# Altium integrated library National Semiconductor MiscPower.IntLib: 1552 symbols (part 14 of 43)
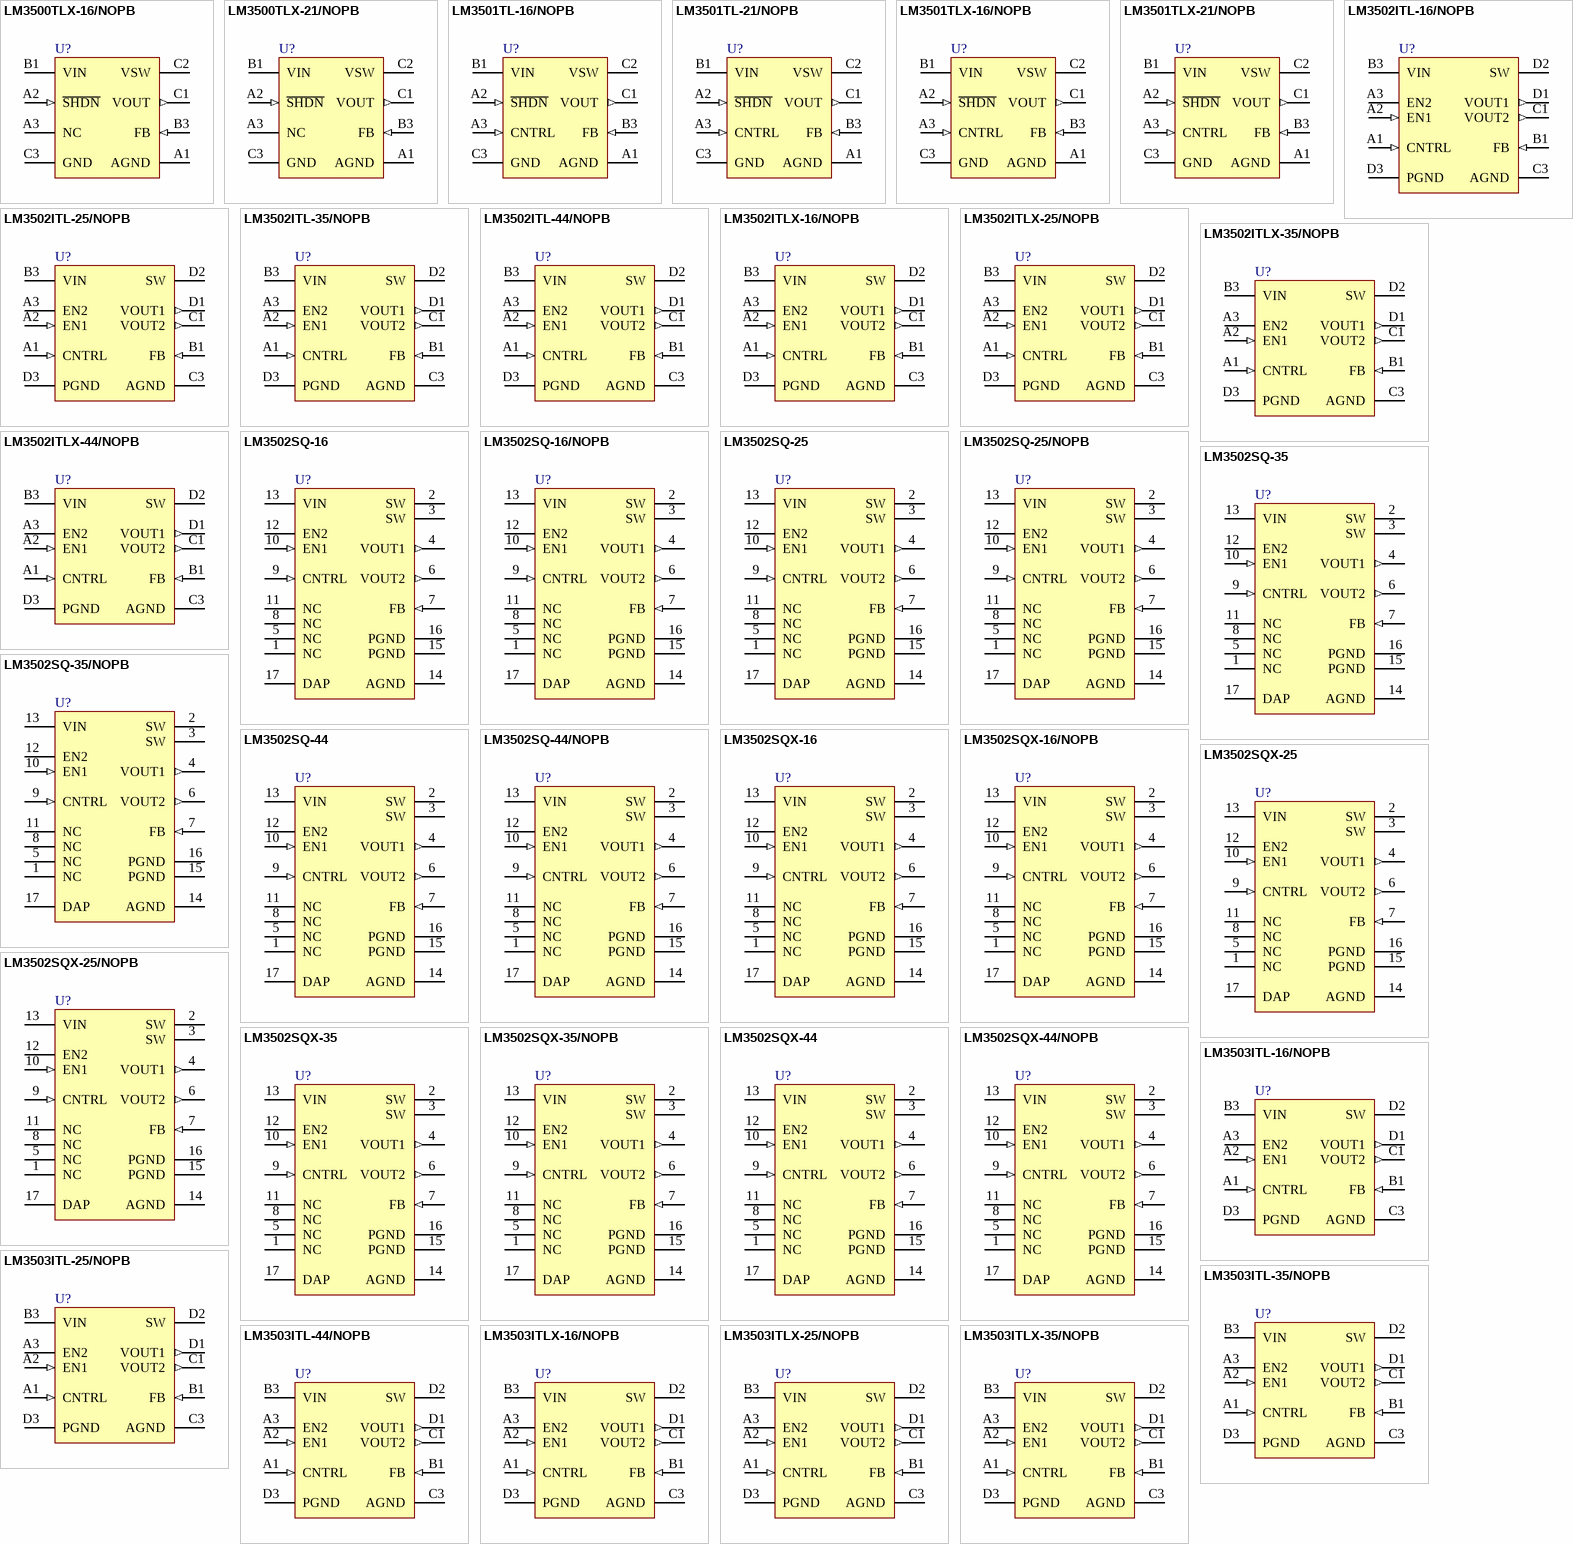
[diagram p70: symbols LM3500TLX-16/NOPB to LM3503ITLX-35/NOPB]

## LM3500TLX-21/NOPB
designator U?
Synchronous Step-up DC/DC Converter for White LED Applications, 8-pin Micro SMD, Pb-Free; PartNumber: LM3500TLX-21/NOPB; Manufacturer: National Semiconductor; PackageTopMarking: XVS*I 23; PowerWise: N; CompType: MiscPower; High-Reliability: Y; DatasheetVersion: Feb-2005; PackageVersion: revC, Jan-2004; PackageReference: TLA08SSA; PackageDescription: Thin Micro SMD, 8 Bump (Large), 0.5mm Pitch; RoHS: Y; PinCount: 8; Code_JEDEC: MO-211-DD; ComponentLink1Description: Manufacturer URL; ComponentLink1URL: http://www.national.com/; ComponentLink2Description: LM3500 Datasheet; ComponentLink2URL: http://www.national.com/ds/LM/LM3500.pdf; ComponentLink3Description: LM3500 Web Page; ComponentLink3URL: http://www.national.com/pf/LM/LM3500.html; ComponentLink4Description: TLA08SSA Package Page; ComponentLink4URL: http://www.national.com/packaging/folders/tla08ssa.html
footprint TLA08SSA (Micro SMD, 8-Leads, Body 1.92x1.92mm, Pitch 0.5mm, NSC Recommended)
pins: A1 AGND (power), A2 ~{SHDN} (in), A3 NC, B1 VIN (power), B3 FB (in), C1 VOUT (out), C2 VSW, C3 GND (power)

## LM3501TL-16/NOPB
designator U?
Synchronous Step-up DC/DC Converter for White LED Applications, 8-pin Micro SMD, Pb-Free; PartNumber: LM3501TL-16/NOPB; Manufacturer: National Semiconductor; PackageTopMarking: XVS*I 19; PowerWise: N; CompType: MiscPower; High-Reliability: Y; DatasheetVersion: May-2005; PackageVersion: revC, Jan-2004; PackageReference: TLA08SSA; PackageDescription: Thin Micro SMD, 8 Bump (Large), 0.5mm Pitch; RoHS: Y; PinCount: 8; Code_JEDEC: MO-211-DD; ComponentLink1Description: Manufacturer URL; ComponentLink1URL: http://www.national.com/; ComponentLink2Description: LM3501 Datasheet; ComponentLink2URL: http://www.national.com/ds/LM/LM3501.pdf; ComponentLink3Description: LM3501 Web Page; ComponentLink3URL: http://www.national.com/pf/LM/LM3501.html; ComponentLink4Description: TLA08SSA Package Page; ComponentLink4URL: http://www.national.com/packaging/folders/tla08ssa.html
footprint TLA08SSA (Micro SMD, 8-Leads, Body 1.92x1.92mm, Pitch 0.5mm, NSC Recommended)
pins: A1 AGND (power), A2 ~{SHDN} (in), A3 CNTRL (in), B1 VIN (power), B3 FB (in), C1 VOUT (out), C2 VSW, C3 GND (power)

## LM3501TL-21/NOPB
designator U?
Synchronous Step-up DC/DC Converter for White LED Applications, 8-pin Micro SMD, Pb-Free; PartNumber: LM3501TL-21/NOPB; Manufacturer: National Semiconductor; PackageTopMarking: XVS*I 30; PowerWise: N; CompType: MiscPower; High-Reliability: Y; DatasheetVersion: May-2005; PackageVersion: revC, Jan-2004; PackageReference: TLA08SSA; PackageDescription: Thin Micro SMD, 8 Bump (Large), 0.5mm Pitch; RoHS: Y; PinCount: 8; Code_JEDEC: MO-211-DD; ComponentLink1Description: Manufacturer URL; ComponentLink1URL: http://www.national.com/; ComponentLink2Description: LM3501 Datasheet; ComponentLink2URL: http://www.national.com/ds/LM/LM3501.pdf; ComponentLink3Description: LM3501 Web Page; ComponentLink3URL: http://www.national.com/pf/LM/LM3501.html; ComponentLink4Description: TLA08SSA Package Page; ComponentLink4URL: http://www.national.com/packaging/folders/tla08ssa.html
footprint TLA08SSA (Micro SMD, 8-Leads, Body 1.92x1.92mm, Pitch 0.5mm, NSC Recommended)
pins: A1 AGND (power), A2 ~{SHDN} (in), A3 CNTRL (in), B1 VIN (power), B3 FB (in), C1 VOUT (out), C2 VSW, C3 GND (power)

## LM3501TLX-16/NOPB
designator U?
Synchronous Step-up DC/DC Converter for White LED Applications, 8-pin Micro SMD, Pb-Free; PartNumber: LM3501TLX-16/NOPB; Manufacturer: National Semiconductor; PackageTopMarking: XVS*I 19; PowerWise: N; CompType: MiscPower; High-Reliability: Y; DatasheetVersion: May-2005; PackageVersion: revC, Jan-2004; PackageReference: TLA08SSA; PackageDescription: Thin Micro SMD, 8 Bump (Large), 0.5mm Pitch; RoHS: Y; PinCount: 8; Code_JEDEC: MO-211-DD; ComponentLink1Description: Manufacturer URL; ComponentLink1URL: http://www.national.com/; ComponentLink2Description: LM3501 Datasheet; ComponentLink2URL: http://www.national.com/ds/LM/LM3501.pdf; ComponentLink3Description: LM3501 Web Page; ComponentLink3URL: http://www.national.com/pf/LM/LM3501.html; ComponentLink4Description: TLA08SSA Package Page; ComponentLink4URL: http://www.national.com/packaging/folders/tla08ssa.html
footprint TLA08SSA (Micro SMD, 8-Leads, Body 1.92x1.92mm, Pitch 0.5mm, NSC Recommended)
pins: A1 AGND (power), A2 ~{SHDN} (in), A3 CNTRL (in), B1 VIN (power), B3 FB (in), C1 VOUT (out), C2 VSW, C3 GND (power)

## LM3501TLX-21/NOPB
designator U?
Synchronous Step-up DC/DC Converter for White LED Applications, 8-pin Micro SMD, Pb-Free; PartNumber: LM3501TLX-21/NOPB; Manufacturer: National Semiconductor; PackageTopMarking: XVS*I 30; PowerWise: N; CompType: MiscPower; High-Reliability: Y; DatasheetVersion: May-2005; PackageVersion: revC, Jan-2004; PackageReference: TLA08SSA; PackageDescription: Thin Micro SMD, 8 Bump (Large), 0.5mm Pitch; RoHS: Y; PinCount: 8; Code_JEDEC: MO-211-DD; ComponentLink1Description: Manufacturer URL; ComponentLink1URL: http://www.national.com/; ComponentLink2Description: LM3501 Datasheet; ComponentLink2URL: http://www.national.com/ds/LM/LM3501.pdf; ComponentLink3Description: LM3501 Web Page; ComponentLink3URL: http://www.national.com/pf/LM/LM3501.html; ComponentLink4Description: TLA08SSA Package Page; ComponentLink4URL: http://www.national.com/packaging/folders/tla08ssa.html
footprint TLA08SSA (Micro SMD, 8-Leads, Body 1.92x1.92mm, Pitch 0.5mm, NSC Recommended)
pins: A1 AGND (power), A2 ~{SHDN} (in), A3 CNTRL (in), B1 VIN (power), B3 FB (in), C1 VOUT (out), C2 VSW, C3 GND (power)

## LM3502ITL-16/NOPB
designator U?
Step-Up Converter for White LED Applications, 10-pin Micro SMD, Pb-Free; PartNumber: LM3502ITL-16/NOPB; Manufacturer: National Semiconductor; PackageTopMarking: XYTT*I SANB; PowerWise: Y; CompType: MiscPower; DatasheetVersion: Aug-2006; PackageVersion: revD, Mar-2004; PackageReference: TLP10RDA; PackageDescription: Thin Micro SMD, 10 Bump (Large), Periperal, 0.5mm Pitch; RoHS: Y; PinCount: 10; High-Reliability: Y; Code_JEDEC: MO-211-BD; ComponentLink1Description: Manufacturer URL; ComponentLink1URL: http://www.national.com/; ComponentLink2Description: LM3502 Datasheet; ComponentLink2URL: http://www.national.com/ds/LM/LM3502.pdf; ComponentLink3Description: LM3502 Web Page; ComponentLink3URL: http://www.national.com/pf/LM/LM3502.html; ComponentLink4Description: TLP10RDA Package Page; ComponentLink4URL: http://www.national.com/packaging/folders/tlp10rda.html
footprint TLP10RDA (Micro SMD, 10-Leads, Body 2.07x1.9mm, Pitch 0.5mm, NSC Recommended)
pins: A1 CNTRL (in), A2 EN1 (in), A3 EN2, B1 FB (in), B3 VIN (power), C1 VOUT2 (out), C3 AGND (power), D1 VOUT1 (out), D2 SW (power), D3 PGND (power)

## LM3502ITL-25/NOPB
designator U?
Step-Up Converter for White LED Applications, 10-pin Micro SMD, Pb-Free; PartNumber: LM3502ITL-25/NOPB; Manufacturer: National Semiconductor; PackageTopMarking: XYTT*I SAPB; PowerWise: Y; CompType: MiscPower; DatasheetVersion: Aug-2006; PackageVersion: revD, Mar-2004; PackageReference: TLP10RDA; PackageDescription: Thin Micro SMD, 10 Bump (Large), Periperal, 0.5mm Pitch; RoHS: Y; PinCount: 10; High-Reliability: Y; Code_JEDEC: MO-211-BD; ComponentLink1Description: Manufacturer URL; ComponentLink1URL: http://www.national.com/; ComponentLink2Description: LM3502 Datasheet; ComponentLink2URL: http://www.national.com/ds/LM/LM3502.pdf; ComponentLink3Description: LM3502 Web Page; ComponentLink3URL: http://www.national.com/pf/LM/LM3502.html; ComponentLink4Description: TLP10RDA Package Page; ComponentLink4URL: http://www.national.com/packaging/folders/tlp10rda.html
footprint TLP10RDA (Micro SMD, 10-Leads, Body 2.07x1.9mm, Pitch 0.5mm, NSC Recommended)
pins: A1 CNTRL (in), A2 EN1 (in), A3 EN2, B1 FB (in), B3 VIN (power), C1 VOUT2 (out), C3 AGND (power), D1 VOUT1 (out), D2 SW (power), D3 PGND (power)

## LM3502ITL-35/NOPB
designator U?
Step-Up Converter for White LED Applications, 10-pin Micro SMD, Pb-Free; PartNumber: LM3502ITL-35/NOPB; Manufacturer: National Semiconductor; PackageTopMarking: XYTT*I SARB; PowerWise: Y; CompType: MiscPower; DatasheetVersion: Aug-2006; PackageVersion: revD, Mar-2004; PackageReference: TLP10RDA; PackageDescription: Thin Micro SMD, 10 Bump (Large), Periperal, 0.5mm Pitch; RoHS: Y; PinCount: 10; High-Reliability: Y; Code_JEDEC: MO-211-BD; ComponentLink1Description: Manufacturer URL; ComponentLink1URL: http://www.national.com/; ComponentLink2Description: LM3502 Datasheet; ComponentLink2URL: http://www.national.com/ds/LM/LM3502.pdf; ComponentLink3Description: LM3502 Web Page; ComponentLink3URL: http://www.national.com/pf/LM/LM3502.html; ComponentLink4Description: TLP10RDA Package Page; ComponentLink4URL: http://www.national.com/packaging/folders/tlp10rda.html
footprint TLP10RDA (Micro SMD, 10-Leads, Body 2.07x1.9mm, Pitch 0.5mm, NSC Recommended)
pins: A1 CNTRL (in), A2 EN1 (in), A3 EN2, B1 FB (in), B3 VIN (power), C1 VOUT2 (out), C3 AGND (power), D1 VOUT1 (out), D2 SW (power), D3 PGND (power)

## LM3502ITL-44/NOPB
designator U?
Step-Up Converter for White LED Applications, 10-pin Micro SMD, Pb-Free; PartNumber: LM3502ITL-44/NOPB; Manufacturer: National Semiconductor; PackageTopMarking: XYTT*I SDLB; PowerWise: Y; CompType: MiscPower; DatasheetVersion: Aug-2006; PackageVersion: revD, Mar-2004; PackageReference: TLP10RDA; PackageDescription: Thin Micro SMD, 10 Bump (Large), Periperal, 0.5mm Pitch; RoHS: Y; PinCount: 10; High-Reliability: Y; Code_JEDEC: MO-211-BD; ComponentLink1Description: Manufacturer URL; ComponentLink1URL: http://www.national.com/; ComponentLink2Description: LM3502 Datasheet; ComponentLink2URL: http://www.national.com/ds/LM/LM3502.pdf; ComponentLink3Description: LM3502 Web Page; ComponentLink3URL: http://www.national.com/pf/LM/LM3502.html; ComponentLink4Description: TLP10RDA Package Page; ComponentLink4URL: http://www.national.com/packaging/folders/tlp10rda.html
footprint TLP10RDA (Micro SMD, 10-Leads, Body 2.07x1.9mm, Pitch 0.5mm, NSC Recommended)
pins: A1 CNTRL (in), A2 EN1 (in), A3 EN2, B1 FB (in), B3 VIN (power), C1 VOUT2 (out), C3 AGND (power), D1 VOUT1 (out), D2 SW (power), D3 PGND (power)

## LM3502ITLX-16/NOPB
designator U?
Step-Up Converter for White LED Applications, 10-pin Micro SMD, Pb-Free; PartNumber: LM3502ITLX-16/NOPB; Manufacturer: National Semiconductor; PackageTopMarking: XYTT*I SANB; PowerWise: Y; CompType: MiscPower; DatasheetVersion: Aug-2006; PackageVersion: revD, Mar-2004; PackageReference: TLP10RDA; PackageDescription: Thin Micro SMD, 10 Bump (Large), Periperal, 0.5mm Pitch; RoHS: Y; PinCount: 10; High-Reliability: Y; Code_JEDEC: MO-211-BD; ComponentLink1Description: Manufacturer URL; ComponentLink1URL: http://www.national.com/; ComponentLink2Description: LM3502 Datasheet; ComponentLink2URL: http://www.national.com/ds/LM/LM3502.pdf; ComponentLink3Description: LM3502 Web Page; ComponentLink3URL: http://www.national.com/pf/LM/LM3502.html; ComponentLink4Description: TLP10RDA Package Page; ComponentLink4URL: http://www.national.com/packaging/folders/tlp10rda.html
footprint TLP10RDA (Micro SMD, 10-Leads, Body 2.07x1.9mm, Pitch 0.5mm, NSC Recommended)
pins: A1 CNTRL (in), A2 EN1 (in), A3 EN2, B1 FB (in), B3 VIN (power), C1 VOUT2 (out), C3 AGND (power), D1 VOUT1 (out), D2 SW (power), D3 PGND (power)

## LM3502ITLX-25/NOPB
designator U?
Step-Up Converter for White LED Applications, 10-pin Micro SMD, Pb-Free; PartNumber: LM3502ITLX-25/NOPB; Manufacturer: National Semiconductor; PackageTopMarking: XYTT*I SAPB; PowerWise: Y; CompType: MiscPower; DatasheetVersion: Aug-2006; PackageVersion: revD, Mar-2004; PackageReference: TLP10RDA; PackageDescription: Thin Micro SMD, 10 Bump (Large), Periperal, 0.5mm Pitch; RoHS: Y; PinCount: 10; High-Reliability: Y; Code_JEDEC: MO-211-BD; ComponentLink1Description: Manufacturer URL; ComponentLink1URL: http://www.national.com/; ComponentLink2Description: LM3502 Datasheet; ComponentLink2URL: http://www.national.com/ds/LM/LM3502.pdf; ComponentLink3Description: LM3502 Web Page; ComponentLink3URL: http://www.national.com/pf/LM/LM3502.html; ComponentLink4Description: TLP10RDA Package Page; ComponentLink4URL: http://www.national.com/packaging/folders/tlp10rda.html
footprint TLP10RDA (Micro SMD, 10-Leads, Body 2.07x1.9mm, Pitch 0.5mm, NSC Recommended)
pins: A1 CNTRL (in), A2 EN1 (in), A3 EN2, B1 FB (in), B3 VIN (power), C1 VOUT2 (out), C3 AGND (power), D1 VOUT1 (out), D2 SW (power), D3 PGND (power)

## LM3502ITLX-35/NOPB
designator U?
Step-Up Converter for White LED Applications, 10-pin Micro SMD, Pb-Free; PartNumber: LM3502ITLX-35/NOPB; Manufacturer: National Semiconductor; PackageTopMarking: XYTT*I SARB; PowerWise: Y; CompType: MiscPower; DatasheetVersion: Aug-2006; PackageVersion: revD, Mar-2004; PackageReference: TLP10RDA; PackageDescription: Thin Micro SMD, 10 Bump (Large), Periperal, 0.5mm Pitch; RoHS: Y; PinCount: 10; High-Reliability: Y; Code_JEDEC: MO-211-BD; ComponentLink1Description: Manufacturer URL; ComponentLink1URL: http://www.national.com/; ComponentLink2Description: LM3502 Datasheet; ComponentLink2URL: http://www.national.com/ds/LM/LM3502.pdf; ComponentLink3Description: LM3502 Web Page; ComponentLink3URL: http://www.national.com/pf/LM/LM3502.html; ComponentLink4Description: TLP10RDA Package Page; ComponentLink4URL: http://www.national.com/packaging/folders/tlp10rda.html
footprint TLP10RDA (Micro SMD, 10-Leads, Body 2.07x1.9mm, Pitch 0.5mm, NSC Recommended)
pins: A1 CNTRL (in), A2 EN1 (in), A3 EN2, B1 FB (in), B3 VIN (power), C1 VOUT2 (out), C3 AGND (power), D1 VOUT1 (out), D2 SW (power), D3 PGND (power)

## LM3502ITLX-44/NOPB
designator U?
Step-Up Converter for White LED Applications, 10-pin Micro SMD, Pb-Free; PartNumber: LM3502ITLX-44/NOPB; Manufacturer: National Semiconductor; PackageTopMarking: XYTT*I SDLB; PowerWise: Y; CompType: MiscPower; DatasheetVersion: Aug-2006; PackageVersion: revD, Mar-2004; PackageReference: TLP10RDA; PackageDescription: Thin Micro SMD, 10 Bump (Large), Periperal, 0.5mm Pitch; RoHS: Y; PinCount: 10; High-Reliability: Y; Code_JEDEC: MO-211-BD; ComponentLink1Description: Manufacturer URL; ComponentLink1URL: http://www.national.com/; ComponentLink2Description: LM3502 Datasheet; ComponentLink2URL: http://www.national.com/ds/LM/LM3502.pdf; ComponentLink3Description: LM3502 Web Page; ComponentLink3URL: http://www.national.com/pf/LM/LM3502.html; ComponentLink4Description: TLP10RDA Package Page; ComponentLink4URL: http://www.national.com/packaging/folders/tlp10rda.html
footprint TLP10RDA (Micro SMD, 10-Leads, Body 2.07x1.9mm, Pitch 0.5mm, NSC Recommended)
pins: A1 CNTRL (in), A2 EN1 (in), A3 EN2, B1 FB (in), B3 VIN (power), C1 VOUT2 (out), C3 AGND (power), D1 VOUT1 (out), D2 SW (power), D3 PGND (power)

## LM3502SQ-16
designator U?
Step-Up Converter for White LED Applications, 16-pin LLP; PartNumber: LM3502SQ-16; Manufacturer: National Semiconductor; PackageTopMarking: NS*UZXYTT*L00048B; PowerWise: Y; CompType: MiscPower; DatasheetVersion: Aug-2006; PackageVersion: revA, Oct-2003; PackageReference: SQA16A; PackageDescription: LLP, Plastic, Quad, 4 x 4 x 0.8mm Body, 16 Lead, 0.5mm Pitch, No Pullback; RoHS: N; PinCount: 16; High-Reliability: Y; ComponentLink1Description: Manufacturer URL; ComponentLink1URL: http://www.national.com/; ComponentLink2Description: LM3502 Datasheet; ComponentLink2URL: http://www.national.com/ds/LM/LM3502.pdf; ComponentLink3Description: LM3502 Web Page; ComponentLink3URL: http://www.national.com/pf/LM/LM3502.html; ComponentLink4Description: SQA16A Package Page; ComponentLink4URL: http://www.national.com/packaging/folders/sqa16a.html
footprint SQA16A (QFN, 16-Leads, Body 4x4mm, Pitch 0.5mm, Thermal Pad 2.7x2.7mm, NSC Recommended)
pins: 1 NC, 2 SW (power), 3 SW (power), 4 VOUT1 (out), 5 NC, 6 VOUT2 (out), 7 FB (in), 8 NC, 9 CNTRL (in), 10 EN1 (in), 11 NC, 12 EN2, 13 VIN (power), 14 AGND (power), 15 PGND (power), 16 PGND (power), 17 DAP (power)

## LM3502SQ-16/NOPB
designator U?
Step-Up Converter for White LED Applications, 16-pin LLP, Pb-Free; PartNumber: LM3502SQ-16/NOPB; Manufacturer: National Semiconductor; PackageTopMarking: NS*UZXYTT*L00048B; PowerWise: Y; CompType: MiscPower; DatasheetVersion: Aug-2006; PackageVersion: revA, Oct-2003; PackageReference: SQA16A; PackageDescription: LLP, Plastic, Quad, 4 x 4 x 0.8mm Body, 16 Lead, 0.5mm Pitch, No Pullback; RoHS: Y; PinCount: 16; High-Reliability: Y; ComponentLink1Description: Manufacturer URL; ComponentLink1URL: http://www.national.com/; ComponentLink2Description: LM3502 Datasheet; ComponentLink2URL: http://www.national.com/ds/LM/LM3502.pdf; ComponentLink3Description: LM3502 Web Page; ComponentLink3URL: http://www.national.com/pf/LM/LM3502.html; ComponentLink4Description: SQA16A Package Page; ComponentLink4URL: http://www.national.com/packaging/folders/sqa16a.html
footprint SQA16A (QFN, 16-Leads, Body 4x4mm, Pitch 0.5mm, Thermal Pad 2.7x2.7mm, NSC Recommended)
pins: 1 NC, 2 SW (power), 3 SW (power), 4 VOUT1 (out), 5 NC, 6 VOUT2 (out), 7 FB (in), 8 NC, 9 CNTRL (in), 10 EN1 (in), 11 NC, 12 EN2, 13 VIN (power), 14 AGND (power), 15 PGND (power), 16 PGND (power), 17 DAP (power)

## LM3502SQ-25
designator U?
Step-Up Converter for White LED Applications, 16-pin LLP; PartNumber: LM3502SQ-25; Manufacturer: National Semiconductor; PackageTopMarking: NS*UZXYTT*L00049B; PowerWise: Y; CompType: MiscPower; DatasheetVersion: Aug-2006; PackageVersion: revA, Oct-2003; PackageReference: SQA16A; PackageDescription: LLP, Plastic, Quad, 4 x 4 x 0.8mm Body, 16 Lead, 0.5mm Pitch, No Pullback; RoHS: N; PinCount: 16; High-Reliability: Y; ComponentLink1Description: Manufacturer URL; ComponentLink1URL: http://www.national.com/; ComponentLink2Description: LM3502 Datasheet; ComponentLink2URL: http://www.national.com/ds/LM/LM3502.pdf; ComponentLink3Description: LM3502 Web Page; ComponentLink3URL: http://www.national.com/pf/LM/LM3502.html; ComponentLink4Description: SQA16A Package Page; ComponentLink4URL: http://www.national.com/packaging/folders/sqa16a.html
footprint SQA16A (QFN, 16-Leads, Body 4x4mm, Pitch 0.5mm, Thermal Pad 2.7x2.7mm, NSC Recommended)
pins: 1 NC, 2 SW (power), 3 SW (power), 4 VOUT1 (out), 5 NC, 6 VOUT2 (out), 7 FB (in), 8 NC, 9 CNTRL (in), 10 EN1 (in), 11 NC, 12 EN2, 13 VIN (power), 14 AGND (power), 15 PGND (power), 16 PGND (power), 17 DAP (power)

## LM3502SQ-25/NOPB
designator U?
Step-Up Converter for White LED Applications, 16-pin LLP, Pb-Free; PartNumber: LM3502SQ-25/NOPB; Manufacturer: National Semiconductor; PackageTopMarking: NS*UZXYTT*L00049B; PowerWise: Y; CompType: MiscPower; DatasheetVersion: Aug-2006; PackageVersion: revA, Oct-2003; PackageReference: SQA16A; PackageDescription: LLP, Plastic, Quad, 4 x 4 x 0.8mm Body, 16 Lead, 0.5mm Pitch, No Pullback; RoHS: Y; PinCount: 16; High-Reliability: Y; ComponentLink1Description: Manufacturer URL; ComponentLink1URL: http://www.national.com/; ComponentLink2Description: LM3502 Datasheet; ComponentLink2URL: http://www.national.com/ds/LM/LM3502.pdf; ComponentLink3Description: LM3502 Web Page; ComponentLink3URL: http://www.national.com/pf/LM/LM3502.html; ComponentLink4Description: SQA16A Package Page; ComponentLink4URL: http://www.national.com/packaging/folders/sqa16a.html
footprint SQA16A (QFN, 16-Leads, Body 4x4mm, Pitch 0.5mm, Thermal Pad 2.7x2.7mm, NSC Recommended)
pins: 1 NC, 2 SW (power), 3 SW (power), 4 VOUT1 (out), 5 NC, 6 VOUT2 (out), 7 FB (in), 8 NC, 9 CNTRL (in), 10 EN1 (in), 11 NC, 12 EN2, 13 VIN (power), 14 AGND (power), 15 PGND (power), 16 PGND (power), 17 DAP (power)

## LM3502SQ-35
designator U?
Step-Up Converter for White LED Applications, 16-pin LLP; PartNumber: LM3502SQ-35; Manufacturer: National Semiconductor; PackageTopMarking: NS*UZXYTT*L00044B; PowerWise: Y; CompType: MiscPower; DatasheetVersion: Aug-2006; PackageVersion: revA, Oct-2003; PackageReference: SQA16A; PackageDescription: LLP, Plastic, Quad, 4 x 4 x 0.8mm Body, 16 Lead, 0.5mm Pitch, No Pullback; RoHS: N; PinCount: 16; High-Reliability: Y; ComponentLink1Description: Manufacturer URL; ComponentLink1URL: http://www.national.com/; ComponentLink2Description: LM3502 Datasheet; ComponentLink2URL: http://www.national.com/ds/LM/LM3502.pdf; ComponentLink3Description: LM3502 Web Page; ComponentLink3URL: http://www.national.com/pf/LM/LM3502.html; ComponentLink4Description: SQA16A Package Page; ComponentLink4URL: http://www.national.com/packaging/folders/sqa16a.html
footprint SQA16A (QFN, 16-Leads, Body 4x4mm, Pitch 0.5mm, Thermal Pad 2.7x2.7mm, NSC Recommended)
pins: 1 NC, 2 SW (power), 3 SW (power), 4 VOUT1 (out), 5 NC, 6 VOUT2 (out), 7 FB (in), 8 NC, 9 CNTRL (in), 10 EN1 (in), 11 NC, 12 EN2, 13 VIN (power), 14 AGND (power), 15 PGND (power), 16 PGND (power), 17 DAP (power)

## LM3502SQ-35/NOPB
designator U?
Step-Up Converter for White LED Applications, 16-pin LLP, Pb-Free; PartNumber: LM3502SQ-35/NOPB; Manufacturer: National Semiconductor; PackageTopMarking: NS*UZXYTT*L00044B; PowerWise: Y; CompType: MiscPower; DatasheetVersion: Aug-2006; PackageVersion: revA, Oct-2003; PackageReference: SQA16A; PackageDescription: LLP, Plastic, Quad, 4 x 4 x 0.8mm Body, 16 Lead, 0.5mm Pitch, No Pullback; RoHS: Y; PinCount: 16; High-Reliability: Y; ComponentLink1Description: Manufacturer URL; ComponentLink1URL: http://www.national.com/; ComponentLink2Description: LM3502 Datasheet; ComponentLink2URL: http://www.national.com/ds/LM/LM3502.pdf; ComponentLink3Description: LM3502 Web Page; ComponentLink3URL: http://www.national.com/pf/LM/LM3502.html; ComponentLink4Description: SQA16A Package Page; ComponentLink4URL: http://www.national.com/packaging/folders/sqa16a.html
footprint SQA16A (QFN, 16-Leads, Body 4x4mm, Pitch 0.5mm, Thermal Pad 2.7x2.7mm, NSC Recommended)
pins: 1 NC, 2 SW (power), 3 SW (power), 4 VOUT1 (out), 5 NC, 6 VOUT2 (out), 7 FB (in), 8 NC, 9 CNTRL (in), 10 EN1 (in), 11 NC, 12 EN2, 13 VIN (power), 14 AGND (power), 15 PGND (power), 16 PGND (power), 17 DAP (power)

## LM3502SQ-44
designator U?
Step-Up Converter for White LED Applications, 16-pin LLP; PartNumber: LM3502SQ-44; Manufacturer: National Semiconductor; PackageTopMarking: NS*UZXYTT*L00050B; PowerWise: Y; CompType: MiscPower; DatasheetVersion: Aug-2006; PackageVersion: revA, Oct-2003; PackageReference: SQA16A; PackageDescription: LLP, Plastic, Quad, 4 x 4 x 0.8mm Body, 16 Lead, 0.5mm Pitch, No Pullback; RoHS: N; PinCount: 16; High-Reliability: Y; ComponentLink1Description: Manufacturer URL; ComponentLink1URL: http://www.national.com/; ComponentLink2Description: LM3502 Datasheet; ComponentLink2URL: http://www.national.com/ds/LM/LM3502.pdf; ComponentLink3Description: LM3502 Web Page; ComponentLink3URL: http://www.national.com/pf/LM/LM3502.html; ComponentLink4Description: SQA16A Package Page; ComponentLink4URL: http://www.national.com/packaging/folders/sqa16a.html
footprint SQA16A (QFN, 16-Leads, Body 4x4mm, Pitch 0.5mm, Thermal Pad 2.7x2.7mm, NSC Recommended)
pins: 1 NC, 2 SW (power), 3 SW (power), 4 VOUT1 (out), 5 NC, 6 VOUT2 (out), 7 FB (in), 8 NC, 9 CNTRL (in), 10 EN1 (in), 11 NC, 12 EN2, 13 VIN (power), 14 AGND (power), 15 PGND (power), 16 PGND (power), 17 DAP (power)

## LM3502SQ-44/NOPB
designator U?
Step-Up Converter for White LED Applications, 16-pin LLP, Pb-Free; PartNumber: LM3502SQ-44/NOPB; Manufacturer: National Semiconductor; PackageTopMarking: NS*UZXYTT*L00050B; PowerWise: Y; CompType: MiscPower; DatasheetVersion: Aug-2006; PackageVersion: revA, Oct-2003; PackageReference: SQA16A; PackageDescription: LLP, Plastic, Quad, 4 x 4 x 0.8mm Body, 16 Lead, 0.5mm Pitch, No Pullback; RoHS: Y; PinCount: 16; High-Reliability: Y; ComponentLink1Description: Manufacturer URL; ComponentLink1URL: http://www.national.com/; ComponentLink2Description: LM3502 Datasheet; ComponentLink2URL: http://www.national.com/ds/LM/LM3502.pdf; ComponentLink3Description: LM3502 Web Page; ComponentLink3URL: http://www.national.com/pf/LM/LM3502.html; ComponentLink4Description: SQA16A Package Page; ComponentLink4URL: http://www.national.com/packaging/folders/sqa16a.html
footprint SQA16A (QFN, 16-Leads, Body 4x4mm, Pitch 0.5mm, Thermal Pad 2.7x2.7mm, NSC Recommended)
pins: 1 NC, 2 SW (power), 3 SW (power), 4 VOUT1 (out), 5 NC, 6 VOUT2 (out), 7 FB (in), 8 NC, 9 CNTRL (in), 10 EN1 (in), 11 NC, 12 EN2, 13 VIN (power), 14 AGND (power), 15 PGND (power), 16 PGND (power), 17 DAP (power)

## LM3502SQX-16
designator U?
Step-Up Converter for White LED Applications, 16-pin LLP; PartNumber: LM3502SQX-16; Manufacturer: National Semiconductor; PackageTopMarking: NS*UZXYTT*L00048B; PowerWise: Y; CompType: MiscPower; DatasheetVersion: Aug-2006; PackageVersion: revA, Oct-2003; PackageReference: SQA16A; PackageDescription: LLP, Plastic, Quad, 4 x 4 x 0.8mm Body, 16 Lead, 0.5mm Pitch, No Pullback; RoHS: N; PinCount: 16; High-Reliability: Y; ComponentLink1Description: Manufacturer URL; ComponentLink1URL: http://www.national.com/; ComponentLink2Description: LM3502 Datasheet; ComponentLink2URL: http://www.national.com/ds/LM/LM3502.pdf; ComponentLink3Description: LM3502 Web Page; ComponentLink3URL: http://www.national.com/pf/LM/LM3502.html; ComponentLink4Description: SQA16A Package Page; ComponentLink4URL: http://www.national.com/packaging/folders/sqa16a.html
footprint SQA16A (QFN, 16-Leads, Body 4x4mm, Pitch 0.5mm, Thermal Pad 2.7x2.7mm, NSC Recommended)
pins: 1 NC, 2 SW (power), 3 SW (power), 4 VOUT1 (out), 5 NC, 6 VOUT2 (out), 7 FB (in), 8 NC, 9 CNTRL (in), 10 EN1 (in), 11 NC, 12 EN2, 13 VIN (power), 14 AGND (power), 15 PGND (power), 16 PGND (power), 17 DAP (power)

## LM3502SQX-16/NOPB
designator U?
Step-Up Converter for White LED Applications, 16-pin LLP, Pb-Free; PartNumber: LM3502SQX-16/NOPB; Manufacturer: National Semiconductor; PackageTopMarking: NS*UZXYTT*L00048B; PowerWise: Y; CompType: MiscPower; DatasheetVersion: Aug-2006; PackageVersion: revA, Oct-2003; PackageReference: SQA16A; PackageDescription: LLP, Plastic, Quad, 4 x 4 x 0.8mm Body, 16 Lead, 0.5mm Pitch, No Pullback; RoHS: Y; PinCount: 16; High-Reliability: Y; ComponentLink1Description: Manufacturer URL; ComponentLink1URL: http://www.national.com/; ComponentLink2Description: LM3502 Datasheet; ComponentLink2URL: http://www.national.com/ds/LM/LM3502.pdf; ComponentLink3Description: LM3502 Web Page; ComponentLink3URL: http://www.national.com/pf/LM/LM3502.html; ComponentLink4Description: SQA16A Package Page; ComponentLink4URL: http://www.national.com/packaging/folders/sqa16a.html
footprint SQA16A (QFN, 16-Leads, Body 4x4mm, Pitch 0.5mm, Thermal Pad 2.7x2.7mm, NSC Recommended)
pins: 1 NC, 2 SW (power), 3 SW (power), 4 VOUT1 (out), 5 NC, 6 VOUT2 (out), 7 FB (in), 8 NC, 9 CNTRL (in), 10 EN1 (in), 11 NC, 12 EN2, 13 VIN (power), 14 AGND (power), 15 PGND (power), 16 PGND (power), 17 DAP (power)

## LM3502SQX-25
designator U?
Step-Up Converter for White LED Applications, 16-pin LLP; PartNumber: LM3502SQX-25; Manufacturer: National Semiconductor; PackageTopMarking: NS*UZXYTT*L00049B; PowerWise: Y; CompType: MiscPower; DatasheetVersion: Aug-2006; PackageVersion: revA, Oct-2003; PackageReference: SQA16A; PackageDescription: LLP, Plastic, Quad, 4 x 4 x 0.8mm Body, 16 Lead, 0.5mm Pitch, No Pullback; RoHS: N; PinCount: 16; High-Reliability: Y; ComponentLink1Description: Manufacturer URL; ComponentLink1URL: http://www.national.com/; ComponentLink2Description: LM3502 Datasheet; ComponentLink2URL: http://www.national.com/ds/LM/LM3502.pdf; ComponentLink3Description: LM3502 Web Page; ComponentLink3URL: http://www.national.com/pf/LM/LM3502.html; ComponentLink4Description: SQA16A Package Page; ComponentLink4URL: http://www.national.com/packaging/folders/sqa16a.html
footprint SQA16A (QFN, 16-Leads, Body 4x4mm, Pitch 0.5mm, Thermal Pad 2.7x2.7mm, NSC Recommended)
pins: 1 NC, 2 SW (power), 3 SW (power), 4 VOUT1 (out), 5 NC, 6 VOUT2 (out), 7 FB (in), 8 NC, 9 CNTRL (in), 10 EN1 (in), 11 NC, 12 EN2, 13 VIN (power), 14 AGND (power), 15 PGND (power), 16 PGND (power), 17 DAP (power)

## LM3502SQX-25/NOPB
designator U?
Step-Up Converter for White LED Applications, 16-pin LLP, Pb-Free; PartNumber: LM3502SQX-25/NOPB; Manufacturer: National Semiconductor; PackageTopMarking: NS*UZXYTT*L00049B; PowerWise: Y; CompType: MiscPower; DatasheetVersion: Aug-2006; PackageVersion: revA, Oct-2003; PackageReference: SQA16A; PackageDescription: LLP, Plastic, Quad, 4 x 4 x 0.8mm Body, 16 Lead, 0.5mm Pitch, No Pullback; RoHS: Y; PinCount: 16; High-Reliability: Y; ComponentLink1Description: Manufacturer URL; ComponentLink1URL: http://www.national.com/; ComponentLink2Description: LM3502 Datasheet; ComponentLink2URL: http://www.national.com/ds/LM/LM3502.pdf; ComponentLink3Description: LM3502 Web Page; ComponentLink3URL: http://www.national.com/pf/LM/LM3502.html; ComponentLink4Description: SQA16A Package Page; ComponentLink4URL: http://www.national.com/packaging/folders/sqa16a.html
footprint SQA16A (QFN, 16-Leads, Body 4x4mm, Pitch 0.5mm, Thermal Pad 2.7x2.7mm, NSC Recommended)
pins: 1 NC, 2 SW (power), 3 SW (power), 4 VOUT1 (out), 5 NC, 6 VOUT2 (out), 7 FB (in), 8 NC, 9 CNTRL (in), 10 EN1 (in), 11 NC, 12 EN2, 13 VIN (power), 14 AGND (power), 15 PGND (power), 16 PGND (power), 17 DAP (power)

## LM3502SQX-35
designator U?
Step-Up Converter for White LED Applications, 16-pin LLP; PartNumber: LM3502SQX-35; Manufacturer: National Semiconductor; PackageTopMarking: NS*UZXYTT*L00044B; PowerWise: Y; CompType: MiscPower; DatasheetVersion: Aug-2006; PackageVersion: revA, Oct-2003; PackageReference: SQA16A; PackageDescription: LLP, Plastic, Quad, 4 x 4 x 0.8mm Body, 16 Lead, 0.5mm Pitch, No Pullback; RoHS: N; PinCount: 16; High-Reliability: Y; ComponentLink1Description: Manufacturer URL; ComponentLink1URL: http://www.national.com/; ComponentLink2Description: LM3502 Datasheet; ComponentLink2URL: http://www.national.com/ds/LM/LM3502.pdf; ComponentLink3Description: LM3502 Web Page; ComponentLink3URL: http://www.national.com/pf/LM/LM3502.html; ComponentLink4Description: SQA16A Package Page; ComponentLink4URL: http://www.national.com/packaging/folders/sqa16a.html
footprint SQA16A (QFN, 16-Leads, Body 4x4mm, Pitch 0.5mm, Thermal Pad 2.7x2.7mm, NSC Recommended)
pins: 1 NC, 2 SW (power), 3 SW (power), 4 VOUT1 (out), 5 NC, 6 VOUT2 (out), 7 FB (in), 8 NC, 9 CNTRL (in), 10 EN1 (in), 11 NC, 12 EN2, 13 VIN (power), 14 AGND (power), 15 PGND (power), 16 PGND (power), 17 DAP (power)

## LM3502SQX-35/NOPB
designator U?
Step-Up Converter for White LED Applications, 16-pin LLP, Pb-Free; PartNumber: LM3502SQX-35/NOPB; Manufacturer: National Semiconductor; PackageTopMarking: NS*UZXYTT*L00044B; PowerWise: Y; CompType: MiscPower; DatasheetVersion: Aug-2006; PackageVersion: revA, Oct-2003; PackageReference: SQA16A; PackageDescription: LLP, Plastic, Quad, 4 x 4 x 0.8mm Body, 16 Lead, 0.5mm Pitch, No Pullback; RoHS: Y; PinCount: 16; High-Reliability: Y; ComponentLink1Description: Manufacturer URL; ComponentLink1URL: http://www.national.com/; ComponentLink2Description: LM3502 Datasheet; ComponentLink2URL: http://www.national.com/ds/LM/LM3502.pdf; ComponentLink3Description: LM3502 Web Page; ComponentLink3URL: http://www.national.com/pf/LM/LM3502.html; ComponentLink4Description: SQA16A Package Page; ComponentLink4URL: http://www.national.com/packaging/folders/sqa16a.html
footprint SQA16A (QFN, 16-Leads, Body 4x4mm, Pitch 0.5mm, Thermal Pad 2.7x2.7mm, NSC Recommended)
pins: 1 NC, 2 SW (power), 3 SW (power), 4 VOUT1 (out), 5 NC, 6 VOUT2 (out), 7 FB (in), 8 NC, 9 CNTRL (in), 10 EN1 (in), 11 NC, 12 EN2, 13 VIN (power), 14 AGND (power), 15 PGND (power), 16 PGND (power), 17 DAP (power)

## LM3502SQX-44
designator U?
Step-Up Converter for White LED Applications, 16-pin LLP; PartNumber: LM3502SQX-44; Manufacturer: National Semiconductor; PackageTopMarking: NS*UZXYTT*L00050B; PowerWise: Y; CompType: MiscPower; DatasheetVersion: Aug-2006; PackageVersion: revA, Oct-2003; PackageReference: SQA16A; PackageDescription: LLP, Plastic, Quad, 4 x 4 x 0.8mm Body, 16 Lead, 0.5mm Pitch, No Pullback; RoHS: N; PinCount: 16; High-Reliability: Y; ComponentLink1Description: Manufacturer URL; ComponentLink1URL: http://www.national.com/; ComponentLink2Description: LM3502 Datasheet; ComponentLink2URL: http://www.national.com/ds/LM/LM3502.pdf; ComponentLink3Description: LM3502 Web Page; ComponentLink3URL: http://www.national.com/pf/LM/LM3502.html; ComponentLink4Description: SQA16A Package Page; ComponentLink4URL: http://www.national.com/packaging/folders/sqa16a.html
footprint SQA16A (QFN, 16-Leads, Body 4x4mm, Pitch 0.5mm, Thermal Pad 2.7x2.7mm, NSC Recommended)
pins: 1 NC, 2 SW (power), 3 SW (power), 4 VOUT1 (out), 5 NC, 6 VOUT2 (out), 7 FB (in), 8 NC, 9 CNTRL (in), 10 EN1 (in), 11 NC, 12 EN2, 13 VIN (power), 14 AGND (power), 15 PGND (power), 16 PGND (power), 17 DAP (power)

## LM3502SQX-44/NOPB
designator U?
Step-Up Converter for White LED Applications, 16-pin LLP, Pb-Free; PartNumber: LM3502SQX-44/NOPB; Manufacturer: National Semiconductor; PackageTopMarking: NS*UZXYTT*L00050B; PowerWise: Y; CompType: MiscPower; DatasheetVersion: Aug-2006; PackageVersion: revA, Oct-2003; PackageReference: SQA16A; PackageDescription: LLP, Plastic, Quad, 4 x 4 x 0.8mm Body, 16 Lead, 0.5mm Pitch, No Pullback; RoHS: Y; PinCount: 16; High-Reliability: Y; ComponentLink1Description: Manufacturer URL; ComponentLink1URL: http://www.national.com/; ComponentLink2Description: LM3502 Datasheet; ComponentLink2URL: http://www.national.com/ds/LM/LM3502.pdf; ComponentLink3Description: LM3502 Web Page; ComponentLink3URL: http://www.national.com/pf/LM/LM3502.html; ComponentLink4Description: SQA16A Package Page; ComponentLink4URL: http://www.national.com/packaging/folders/sqa16a.html
footprint SQA16A (QFN, 16-Leads, Body 4x4mm, Pitch 0.5mm, Thermal Pad 2.7x2.7mm, NSC Recommended)
pins: 1 NC, 2 SW (power), 3 SW (power), 4 VOUT1 (out), 5 NC, 6 VOUT2 (out), 7 FB (in), 8 NC, 9 CNTRL (in), 10 EN1 (in), 11 NC, 12 EN2, 13 VIN (power), 14 AGND (power), 15 PGND (power), 16 PGND (power), 17 DAP (power)

## LM3503ITL-16/NOPB
designator U?
Dual-Display Constant Current LED Driver with Analog Brightness Control, 10-pin Micro SMD, Pb-Free; PartNumber: LM3503ITL-16/NOPB; Manufacturer: National Semiconductor; PackageTopMarking: XYTT*I SBHB; PowerWise: Y; CompType: MiscPower; DatasheetVersion: Aug-2006; PackageVersion: revD, Mar-2004; PackageReference: TLP10RDA; PackageDescription: Thin Micro SMD, 10 Bump (Large), Periperal, 0.5mm Pitch; RoHS: Y; PinCount: 10; High-Reliability: Y; Code_JEDEC: MO-211-BD; ComponentLink1Description: Manufacturer URL; ComponentLink1URL: http://www.national.com/; ComponentLink2Description: LM3503 Datasheet; ComponentLink2URL: http://www.national.com/ds/LM/LM3503.pdf; ComponentLink3Description: LM3503 Web Page; ComponentLink3URL: http://www.national.com/pf/LM/LM3503.html; ComponentLink4Description: TLP10RDA Package Page; ComponentLink4URL: http://www.national.com/packaging/folders/tlp10rda.html
footprint TLP10RDA (Micro SMD, 10-Leads, Body 2.07x1.9mm, Pitch 0.5mm, NSC Recommended)
pins: A1 CNTRL (in), A2 EN1 (in), A3 EN2, B1 FB (in), B3 VIN (power), C1 VOUT2 (out), C3 AGND (power), D1 VOUT1 (out), D2 SW (power), D3 PGND (power)

## LM3503ITL-25/NOPB
designator U?
Dual-Display Constant Current LED Driver with Analog Brightness Control, 10-pin Micro SMD, Pb-Free; PartNumber: LM3503ITL-25/NOPB; Manufacturer: National Semiconductor; PackageTopMarking: XYTT*I SBJB; PowerWise: Y; CompType: MiscPower; DatasheetVersion: Aug-2006; PackageVersion: revD, Mar-2004; PackageReference: TLP10RDA; PackageDescription: Thin Micro SMD, 10 Bump (Large), Periperal, 0.5mm Pitch; RoHS: Y; PinCount: 10; High-Reliability: Y; Code_JEDEC: MO-211-BD; ComponentLink1Description: Manufacturer URL; ComponentLink1URL: http://www.national.com/; ComponentLink2Description: LM3503 Datasheet; ComponentLink2URL: http://www.national.com/ds/LM/LM3503.pdf; ComponentLink3Description: LM3503 Web Page; ComponentLink3URL: http://www.national.com/pf/LM/LM3503.html; ComponentLink4Description: TLP10RDA Package Page; ComponentLink4URL: http://www.national.com/packaging/folders/tlp10rda.html
footprint TLP10RDA (Micro SMD, 10-Leads, Body 2.07x1.9mm, Pitch 0.5mm, NSC Recommended)
pins: A1 CNTRL (in), A2 EN1 (in), A3 EN2, B1 FB (in), B3 VIN (power), C1 VOUT2 (out), C3 AGND (power), D1 VOUT1 (out), D2 SW (power), D3 PGND (power)

## LM3503ITL-35/NOPB
designator U?
Dual-Display Constant Current LED Driver with Analog Brightness Control, 10-pin Micro SMD, Pb-Free; PartNumber: LM3503ITL-35/NOPB; Manufacturer: National Semiconductor; PackageTopMarking: XYTT*I SBKB; PowerWise: Y; CompType: MiscPower; DatasheetVersion: Aug-2006; PackageVersion: revD, Mar-2004; PackageReference: TLP10RDA; PackageDescription: Thin Micro SMD, 10 Bump (Large), Periperal, 0.5mm Pitch; RoHS: Y; PinCount: 10; High-Reliability: Y; Code_JEDEC: MO-211-BD; ComponentLink1Description: Manufacturer URL; ComponentLink1URL: http://www.national.com/; ComponentLink2Description: LM3503 Datasheet; ComponentLink2URL: http://www.national.com/ds/LM/LM3503.pdf; ComponentLink3Description: LM3503 Web Page; ComponentLink3URL: http://www.national.com/pf/LM/LM3503.html; ComponentLink4Description: TLP10RDA Package Page; ComponentLink4URL: http://www.national.com/packaging/folders/tlp10rda.html
footprint TLP10RDA (Micro SMD, 10-Leads, Body 2.07x1.9mm, Pitch 0.5mm, NSC Recommended)
pins: A1 CNTRL (in), A2 EN1 (in), A3 EN2, B1 FB (in), B3 VIN (power), C1 VOUT2 (out), C3 AGND (power), D1 VOUT1 (out), D2 SW (power), D3 PGND (power)

## LM3503ITL-44/NOPB
designator U?
Dual-Display Constant Current LED Driver with Analog Brightness Control, 10-pin Micro SMD, Pb-Free; PartNumber: LM3503ITL-44/NOPB; Manufacturer: National Semiconductor; PackageTopMarking: XYTT*I SDNB; PowerWise: Y; CompType: MiscPower; DatasheetVersion: Aug-2006; PackageVersion: revD, Mar-2004; PackageReference: TLP10RDA; PackageDescription: Thin Micro SMD, 10 Bump (Large), Periperal, 0.5mm Pitch; RoHS: Y; PinCount: 10; High-Reliability: Y; Code_JEDEC: MO-211-BD; ComponentLink1Description: Manufacturer URL; ComponentLink1URL: http://www.national.com/; ComponentLink2Description: LM3503 Datasheet; ComponentLink2URL: http://www.national.com/ds/LM/LM3503.pdf; ComponentLink3Description: LM3503 Web Page; ComponentLink3URL: http://www.national.com/pf/LM/LM3503.html; ComponentLink4Description: TLP10RDA Package Page; ComponentLink4URL: http://www.national.com/packaging/folders/tlp10rda.html
footprint TLP10RDA (Micro SMD, 10-Leads, Body 2.07x1.9mm, Pitch 0.5mm, NSC Recommended)
pins: A1 CNTRL (in), A2 EN1 (in), A3 EN2, B1 FB (in), B3 VIN (power), C1 VOUT2 (out), C3 AGND (power), D1 VOUT1 (out), D2 SW (power), D3 PGND (power)

## LM3503ITLX-16/NOPB
designator U?
Dual-Display Constant Current LED Driver with Analog Brightness Control, 10-pin Micro SMD, Pb-Free; PartNumber: LM3503ITLX-16/NOPB; Manufacturer: National Semiconductor; PackageTopMarking: XYTT*I SBHB; PowerWise: Y; CompType: MiscPower; DatasheetVersion: Aug-2006; PackageVersion: revD, Mar-2004; PackageReference: TLP10RDA; PackageDescription: Thin Micro SMD, 10 Bump (Large), Periperal, 0.5mm Pitch; RoHS: Y; PinCount: 10; High-Reliability: Y; Code_JEDEC: MO-211-BD; ComponentLink1Description: Manufacturer URL; ComponentLink1URL: http://www.national.com/; ComponentLink2Description: LM3503 Datasheet; ComponentLink2URL: http://www.national.com/ds/LM/LM3503.pdf; ComponentLink3Description: LM3503 Web Page; ComponentLink3URL: http://www.national.com/pf/LM/LM3503.html; ComponentLink4Description: TLP10RDA Package Page; ComponentLink4URL: http://www.national.com/packaging/folders/tlp10rda.html
footprint TLP10RDA (Micro SMD, 10-Leads, Body 2.07x1.9mm, Pitch 0.5mm, NSC Recommended)
pins: A1 CNTRL (in), A2 EN1 (in), A3 EN2, B1 FB (in), B3 VIN (power), C1 VOUT2 (out), C3 AGND (power), D1 VOUT1 (out), D2 SW (power), D3 PGND (power)

## LM3503ITLX-25/NOPB
designator U?
Dual-Display Constant Current LED Driver with Analog Brightness Control, 10-pin Micro SMD, Pb-Free; PartNumber: LM3503ITLX-25/NOPB; Manufacturer: National Semiconductor; PackageTopMarking: XYTT*I SBJB; PowerWise: Y; CompType: MiscPower; DatasheetVersion: Aug-2006; PackageVersion: revD, Mar-2004; PackageReference: TLP10RDA; PackageDescription: Thin Micro SMD, 10 Bump (Large), Periperal, 0.5mm Pitch; RoHS: Y; PinCount: 10; High-Reliability: Y; Code_JEDEC: MO-211-BD; ComponentLink1Description: Manufacturer URL; ComponentLink1URL: http://www.national.com/; ComponentLink2Description: LM3503 Datasheet; ComponentLink2URL: http://www.national.com/ds/LM/LM3503.pdf; ComponentLink3Description: LM3503 Web Page; ComponentLink3URL: http://www.national.com/pf/LM/LM3503.html; ComponentLink4Description: TLP10RDA Package Page; ComponentLink4URL: http://www.national.com/packaging/folders/tlp10rda.html
footprint TLP10RDA (Micro SMD, 10-Leads, Body 2.07x1.9mm, Pitch 0.5mm, NSC Recommended)
pins: A1 CNTRL (in), A2 EN1 (in), A3 EN2, B1 FB (in), B3 VIN (power), C1 VOUT2 (out), C3 AGND (power), D1 VOUT1 (out), D2 SW (power), D3 PGND (power)

## LM3503ITLX-35/NOPB
designator U?
Dual-Display Constant Current LED Driver with Analog Brightness Control, 10-pin Micro SMD, Pb-Free; PartNumber: LM3503ITLX-35/NOPB; Manufacturer: National Semiconductor; PackageTopMarking: XYTT*I SBKB; PowerWise: Y; CompType: MiscPower; DatasheetVersion: Aug-2006; PackageVersion: revD, Mar-2004; PackageReference: TLP10RDA; PackageDescription: Thin Micro SMD, 10 Bump (Large), Periperal, 0.5mm Pitch; RoHS: Y; PinCount: 10; High-Reliability: Y; Code_JEDEC: MO-211-BD; ComponentLink1Description: Manufacturer URL; ComponentLink1URL: http://www.national.com/; ComponentLink2Description: LM3503 Datasheet; ComponentLink2URL: http://www.national.com/ds/LM/LM3503.pdf; ComponentLink3Description: LM3503 Web Page; ComponentLink3URL: http://www.national.com/pf/LM/LM3503.html; ComponentLink4Description: TLP10RDA Package Page; ComponentLink4URL: http://www.national.com/packaging/folders/tlp10rda.html
footprint TLP10RDA (Micro SMD, 10-Leads, Body 2.07x1.9mm, Pitch 0.5mm, NSC Recommended)
pins: A1 CNTRL (in), A2 EN1 (in), A3 EN2, B1 FB (in), B3 VIN (power), C1 VOUT2 (out), C3 AGND (power), D1 VOUT1 (out), D2 SW (power), D3 PGND (power)

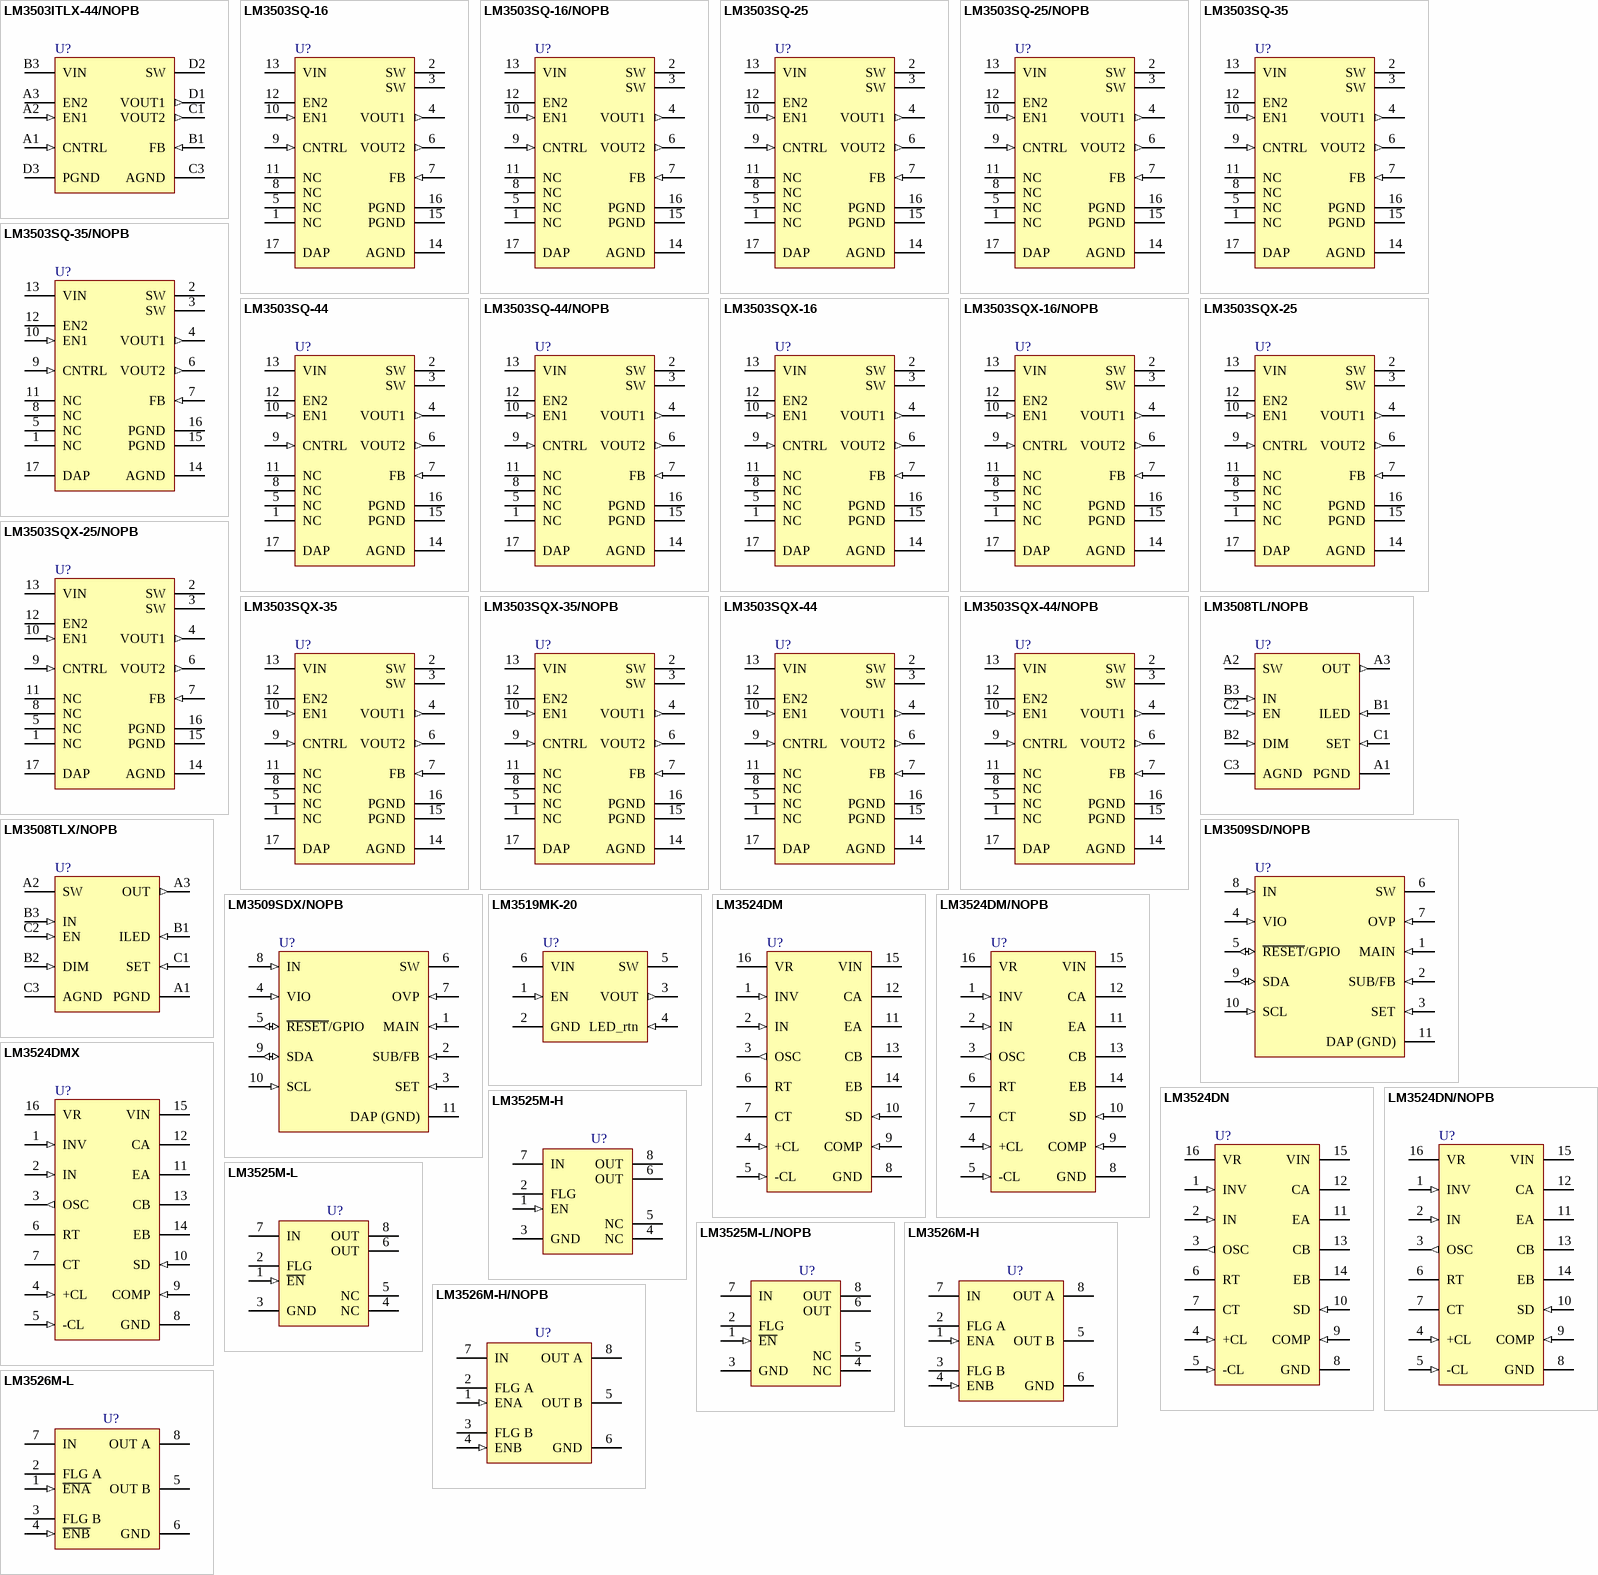
[diagram p16: symbols LM3503ITLX-44/NOPB to LM3526M-L]

## LM3503ITLX-44/NOPB
designator U?
Dual-Display Constant Current LED Driver with Analog Brightness Control, 10-pin Micro SMD, Pb-Free; PartNumber: LM3503ITLX-44/NOPB; Manufacturer: National Semiconductor; PackageTopMarking: XYTT*I SDNB; PowerWise: Y; CompType: MiscPower; DatasheetVersion: Aug-2006; PackageVersion: revD, Mar-2004; PackageReference: TLP10RDA; PackageDescription: Thin Micro SMD, 10 Bump (Large), Periperal, 0.5mm Pitch; RoHS: Y; PinCount: 10; High-Reliability: Y; Code_JEDEC: MO-211-BD; ComponentLink1Description: Manufacturer URL; ComponentLink1URL: http://www.national.com/; ComponentLink2Description: LM3503 Datasheet; ComponentLink2URL: http://www.national.com/ds/LM/LM3503.pdf; ComponentLink3Description: LM3503 Web Page; ComponentLink3URL: http://www.national.com/pf/LM/LM3503.html; ComponentLink4Description: TLP10RDA Package Page; ComponentLink4URL: http://www.national.com/packaging/folders/tlp10rda.html
footprint TLP10RDA (Micro SMD, 10-Leads, Body 2.07x1.9mm, Pitch 0.5mm, NSC Recommended)
pins: A1 CNTRL (in), A2 EN1 (in), A3 EN2, B1 FB (in), B3 VIN (power), C1 VOUT2 (out), C3 AGND (power), D1 VOUT1 (out), D2 SW (power), D3 PGND (power)

## LM3503SQ-16
designator U?
Dual-Display Constant Current LED Driver with Analog Brightness Control, 16-pin LLP; PartNumber: LM3503SQ-16; Manufacturer: National Semiconductor; PackageTopMarking: NS*UZXYTT*L00045B; PowerWise: Y; CompType: MiscPower; DatasheetVersion: Aug-2006; PackageVersion: revA, Oct-2003; PackageReference: SQA16A; PackageDescription: LLP, Plastic, Quad, 4 x 4 x 0.8mm Body, 16 Lead, 0.5mm Pitch, No Pullback; RoHS: N; PinCount: 16; High-Reliability: Y; ComponentLink1Description: Manufacturer URL; ComponentLink1URL: http://www.national.com/; ComponentLink2Description: LM3503 Datasheet; ComponentLink2URL: http://www.national.com/ds/LM/LM3503.pdf; ComponentLink3Description: LM3503 Web Page; ComponentLink3URL: http://www.national.com/pf/LM/LM3503.html; ComponentLink4Description: SQA16A Package Page; ComponentLink4URL: http://www.national.com/packaging/folders/sqa16a.html
footprint SQA16A (QFN, 16-Leads, Body 4x4mm, Pitch 0.5mm, Thermal Pad 2.7x2.7mm, NSC Recommended)
pins: 1 NC, 2 SW (power), 3 SW (power), 4 VOUT1 (out), 5 NC, 6 VOUT2 (out), 7 FB (in), 8 NC, 9 CNTRL (in), 10 EN1 (in), 11 NC, 12 EN2, 13 VIN (power), 14 AGND (power), 15 PGND (power), 16 PGND (power), 17 DAP (power)

## LM3503SQ-16/NOPB
designator U?
Dual-Display Constant Current LED Driver with Analog Brightness Control, 16-pin LLP, Pb-Free; PartNumber: LM3503SQ-16/NOPB; Manufacturer: National Semiconductor; PackageTopMarking: NS*UZXYTT*L00045B; PowerWise: Y; CompType: MiscPower; DatasheetVersion: Aug-2006; PackageVersion: revA, Oct-2003; PackageReference: SQA16A; PackageDescription: LLP, Plastic, Quad, 4 x 4 x 0.8mm Body, 16 Lead, 0.5mm Pitch, No Pullback; RoHS: Y; PinCount: 16; High-Reliability: Y; ComponentLink1Description: Manufacturer URL; ComponentLink1URL: http://www.national.com/; ComponentLink2Description: LM3503 Datasheet; ComponentLink2URL: http://www.national.com/ds/LM/LM3503.pdf; ComponentLink3Description: LM3503 Web Page; ComponentLink3URL: http://www.national.com/pf/LM/LM3503.html; ComponentLink4Description: SQA16A Package Page; ComponentLink4URL: http://www.national.com/packaging/folders/sqa16a.html
footprint SQA16A (QFN, 16-Leads, Body 4x4mm, Pitch 0.5mm, Thermal Pad 2.7x2.7mm, NSC Recommended)
pins: 1 NC, 2 SW (power), 3 SW (power), 4 VOUT1 (out), 5 NC, 6 VOUT2 (out), 7 FB (in), 8 NC, 9 CNTRL (in), 10 EN1 (in), 11 NC, 12 EN2, 13 VIN (power), 14 AGND (power), 15 PGND (power), 16 PGND (power), 17 DAP (power)

## LM3503SQ-25
designator U?
Dual-Display Constant Current LED Driver with Analog Brightness Control, 16-pin LLP; PartNumber: LM3503SQ-25; Manufacturer: National Semiconductor; PackageTopMarking: NS*UZXYTT*L00046B; PowerWise: Y; CompType: MiscPower; DatasheetVersion: Aug-2006; PackageVersion: revA, Oct-2003; PackageReference: SQA16A; PackageDescription: LLP, Plastic, Quad, 4 x 4 x 0.8mm Body, 16 Lead, 0.5mm Pitch, No Pullback; RoHS: N; PinCount: 16; High-Reliability: Y; ComponentLink1Description: Manufacturer URL; ComponentLink1URL: http://www.national.com/; ComponentLink2Description: LM3503 Datasheet; ComponentLink2URL: http://www.national.com/ds/LM/LM3503.pdf; ComponentLink3Description: LM3503 Web Page; ComponentLink3URL: http://www.national.com/pf/LM/LM3503.html; ComponentLink4Description: SQA16A Package Page; ComponentLink4URL: http://www.national.com/packaging/folders/sqa16a.html
footprint SQA16A (QFN, 16-Leads, Body 4x4mm, Pitch 0.5mm, Thermal Pad 2.7x2.7mm, NSC Recommended)
pins: 1 NC, 2 SW (power), 3 SW (power), 4 VOUT1 (out), 5 NC, 6 VOUT2 (out), 7 FB (in), 8 NC, 9 CNTRL (in), 10 EN1 (in), 11 NC, 12 EN2, 13 VIN (power), 14 AGND (power), 15 PGND (power), 16 PGND (power), 17 DAP (power)

## LM3503SQ-25/NOPB
designator U?
Dual-Display Constant Current LED Driver with Analog Brightness Control, 16-pin LLP, Pb-Free; PartNumber: LM3503SQ-25/NOPB; Manufacturer: National Semiconductor; PackageTopMarking: NS*UZXYTT*L00046B; PowerWise: Y; CompType: MiscPower; DatasheetVersion: Aug-2006; PackageVersion: revA, Oct-2003; PackageReference: SQA16A; PackageDescription: LLP, Plastic, Quad, 4 x 4 x 0.8mm Body, 16 Lead, 0.5mm Pitch, No Pullback; RoHS: Y; PinCount: 16; High-Reliability: Y; ComponentLink1Description: Manufacturer URL; ComponentLink1URL: http://www.national.com/; ComponentLink2Description: LM3503 Datasheet; ComponentLink2URL: http://www.national.com/ds/LM/LM3503.pdf; ComponentLink3Description: LM3503 Web Page; ComponentLink3URL: http://www.national.com/pf/LM/LM3503.html; ComponentLink4Description: SQA16A Package Page; ComponentLink4URL: http://www.national.com/packaging/folders/sqa16a.html
footprint SQA16A (QFN, 16-Leads, Body 4x4mm, Pitch 0.5mm, Thermal Pad 2.7x2.7mm, NSC Recommended)
pins: 1 NC, 2 SW (power), 3 SW (power), 4 VOUT1 (out), 5 NC, 6 VOUT2 (out), 7 FB (in), 8 NC, 9 CNTRL (in), 10 EN1 (in), 11 NC, 12 EN2, 13 VIN (power), 14 AGND (power), 15 PGND (power), 16 PGND (power), 17 DAP (power)

## LM3503SQ-35
designator U?
Dual-Display Constant Current LED Driver with Analog Brightness Control, 16-pin LLP; PartNumber: LM3503SQ-35; Manufacturer: National Semiconductor; PackageTopMarking: NS*UZXYTT*L00047B; PowerWise: Y; CompType: MiscPower; DatasheetVersion: Aug-2006; PackageVersion: revA, Oct-2003; PackageReference: SQA16A; PackageDescription: LLP, Plastic, Quad, 4 x 4 x 0.8mm Body, 16 Lead, 0.5mm Pitch, No Pullback; RoHS: N; PinCount: 16; High-Reliability: Y; ComponentLink1Description: Manufacturer URL; ComponentLink1URL: http://www.national.com/; ComponentLink2Description: LM3503 Datasheet; ComponentLink2URL: http://www.national.com/ds/LM/LM3503.pdf; ComponentLink3Description: LM3503 Web Page; ComponentLink3URL: http://www.national.com/pf/LM/LM3503.html; ComponentLink4Description: SQA16A Package Page; ComponentLink4URL: http://www.national.com/packaging/folders/sqa16a.html
footprint SQA16A (QFN, 16-Leads, Body 4x4mm, Pitch 0.5mm, Thermal Pad 2.7x2.7mm, NSC Recommended)
pins: 1 NC, 2 SW (power), 3 SW (power), 4 VOUT1 (out), 5 NC, 6 VOUT2 (out), 7 FB (in), 8 NC, 9 CNTRL (in), 10 EN1 (in), 11 NC, 12 EN2, 13 VIN (power), 14 AGND (power), 15 PGND (power), 16 PGND (power), 17 DAP (power)